# EAGLE library part MAX10M25SC_TEST1_ALTERA_MAX10M25SCPAD (library goJAMMAv02)
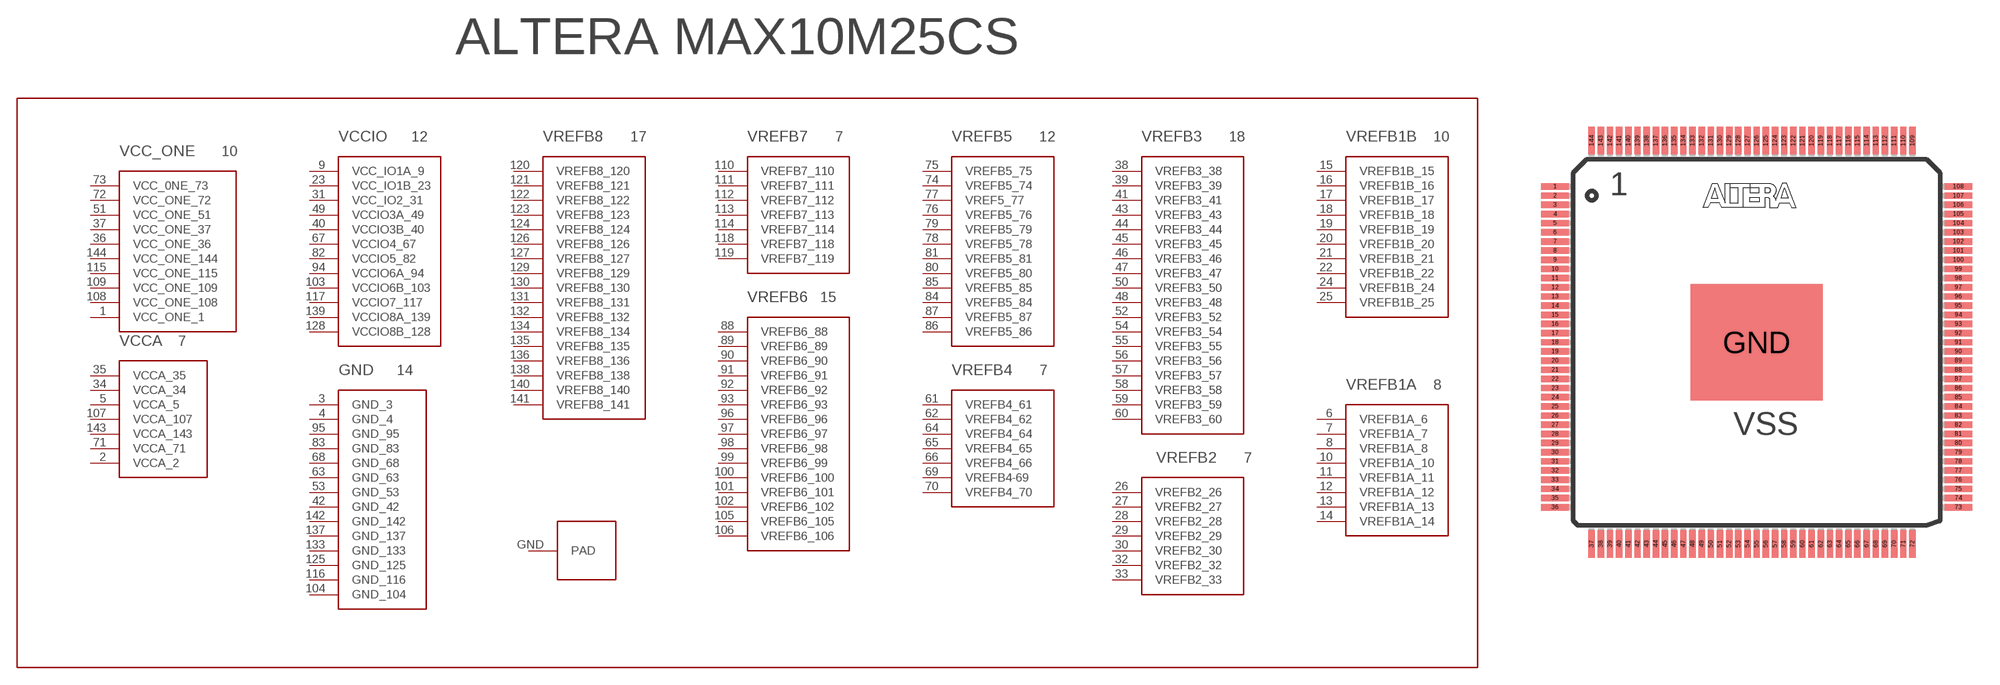
[diagram p3: symbol with the pads of MAX10M25SC_TEST1_ALTERA_EQFP144; footprint MAX10M25SC_TEST1_ALTERA_EQFP144]

Designator prefix -

## MAX10M25SC_TEST1_ALTERA_MAX10M25SCPAD  [MAX10M25SC_TEST1_ALTERA_EQFP144]
1  VCC_ONE_1
2  VCCA_2
3  GND_3
4  GND_4
5  VCCA_5
6  VREFB1A_6
7  VREFB1A_7
8  VREFB1A_8
9  VCC_IO1A_9
10  VREFB1A_10
11  VREFB1A_11
12  VREFB1A_12
13  VREFB1A_13
14  VREFB1A_14
15  VREFB1B_15
16  VREFB1B_16
17  VREFB1B_17
18  VREFB1B_18
19  VREFB1B_19
20  VREFB1B_20
21  VREFB1B_21
22  VREFB1B_22
23  VCC_IO1B_23
24  VREFB1B_24
25  VREFB1B_25
26  VREFB2_26
27  VREFB2_27
28  VREFB2_28
29  VREFB2_29
30  VREFB2_30
31  VCC_IO2_31
32  VREFB2_32
33  VREFB2_33
34  VCCA_34
35  VCCA_35
36  VCC_ONE_36
37  VCC_ONE_37
38  VREFB3_38
39  VREFB3_39
40  VCCIO3B_40
41  VREFB3_41
42  GND_42
43  VREFB3_43
44  VREFB3_44
45  VREFB3_45
46  VREFB3_46
47  VREFB3_47
48  VREFB3_48
49  VCCIO3A_49
50  VREFB3_50
51  VCC_ONE_51
52  VREFB3_52
53  GND_53
54  VREFB3_54
55  VREFB3_55
56  VREFB3_56
57  VREFB3_57
58  VREFB3_58
59  VREFB3_59
60  VREFB3_60
61  VREFB4_61
62  VREFB4_62
63  GND_63
64  VREFB4_64
65  VREFB4_65
66  VREFB4_66
67  VCCIO4_67
68  GND_68
69  VREFB4-69
70  VREFB4_70
71  VCCA_71
72  VCC_ONE_72
73  VCC_0NE_73
74  VREFB5_74
75  VREFB5_75
76  VREFB5_76
77  VREF5_77
78  VREFB5_78
79  VREFB5_79
80  VREFB5_80
81  VREFB5_81
82  VCCIO5_82
83  GND_83
84  VREFB5_84
85  VREFB5_85
86  VREFB5_86
87  VREFB5_87
88  VREFB6_88
89  VREFB6_89
90  VREFB6_90
91  VREFB6_91
92  VREFB6_92
93  VREFB6_93
94  VCCIO6A_94
95  GND_95
96  VREFB6_96
97  VREFB6_97
98  VREFB6_98
99  VREFB6_99
100  VREFB6_100
101  VREFB6_101
102  VREFB6_102
103  VCCIO6B_103
104  GND_104
105  VREFB6_105
106  VREFB6_106
107  VCCA_107
108  VCC_ONE_108
109  VCC_ONE_109
110  VREFB7_110
111  VREFB7_111
112  VREFB7_112
113  VREFB7_113
114  VREFB7_114
115  VCC_ONE_115
116  GND_116
117  VCCIO7_117
118  VREFB7_118
119  VREFB7_119
120  VREFB8_120
121  VREFB8_121
122  VREFB8_122
123  VREFB8_123
124  VREFB8_124
125  GND_125
126  VREFB8_126
127  VREFB8_127
128  VCCIO8B_128
129  VREFB8_129
130  VREFB8_130
131  VREFB8_131
132  VREFB8_132
133  GND_133
134  VREFB8_134
135  VREFB8_135
136  VREFB8_136
137  GND_137
138  VREFB8_138
139  VCCIO8A_139
140  VREFB8_140
141  VREFB8_141
142  GND_142
143  VCCA_143
144  VCC_ONE_144
GND  PAD

## Footprint MAX10M25SC_TEST1_ALTERA_EQFP144 (pad centres in mm)
smd 1.5 x 0.35: 1 -11,8.5; 2 -11,8; 3 -11,7.5; 4 -11,7; 5 -11,6.5; 6 -11,6; 7 -11,5.5; 8 -11,5; 9 -11,4.5; 10 -11,4; 11 -11,3.5; 12 -11,3; 13 -11,2.5; 14 -11,2; 15 -11,1.5; 16 -11,1; 17 -11,0.5; 18 -11,0; 19 -11,-0.5; 20 -11,-1; 21 -11,-1.5; 22 -11,-2; 23 -11,-2.5; 24 -11,-3; 25 -11,-3.5; 26 -11,-4; 27 -11,-4.5; 28 -11,-5; 29 -11,-5.5; 30 -11,-6; 31 -11,-6.5; 32 -11,-7; 33 -11,-7.5; 34 -11,-8; 35 -11,-8.5; 36 -11,-9; 73 11,-9; 74 11,-8.5; 75 11,-8; 76 11,-7.5; 77 11,-7; 78 11,-6.5; 79 11,-6; 80 11,-5.5; 81 11,-5; 82 11,-4.5; 83 11,-4; 84 11,-3.5; 85 11,-3; 86 11,-2.5; 87 11,-2; 88 11,-1.5; 89 11,-1; 90 11,-0.5; 91 11,0; 92 11,0.5; 93 11,1; 94 11,1.5; 95 11,2; 96 11,2.5; 97 11,3; 98 11,3.5; 99 11,4; 100 11,4.5; 101 11,5; 102 11,5.5; 103 11,6; 104 11,6.5; 105 11,7; 106 11,7.5; 107 11,8; 108 11,8.5
smd 0.35 x 1.5: 37 -9,-11; 38 -8.5,-11; 39 -8,-11; 40 -7.5,-11; 41 -7,-11; 42 -6.5,-11; 43 -6,-11; 44 -5.5,-11; 45 -5,-11; 46 -4.5,-11; 47 -4,-11; 48 -3.5,-11; 49 -3,-11; 50 -2.5,-11; 51 -2,-11; 52 -1.5,-11; 53 -1,-11; 54 -0.5,-11; 55 0,-11; 56 0.5,-11; 57 1,-11; 58 1.5,-11; 59 2,-11; 60 2.5,-11; 61 3,-11; 62 3.5,-11; 63 4,-11; 64 4.5,-11; 65 5,-11; 66 5.5,-11; 67 6,-11; 68 6.5,-11; 69 7,-11; 70 7.5,-11; 71 8,-11; 72 8.5,-11; 109 8.5,11; 110 8,11; 111 7.5,11; 112 7,11; 113 6.5,11; 114 6,11; 115 5.5,11; 116 5,11; 117 4.5,11; 118 4,11; 119 3.5,11; 120 3,11; 121 2.5,11; 122 2,11; 123 1.5,11; 124 1,11; 125 0.5,11; 126 0,11; 127 -0.5,11; 128 -1,11; 129 -1.5,11; 130 -2,11; 131 -2.5,11; 132 -3,11; 133 -3.5,11; 134 -4,11; 135 -4.5,11; 136 -5,11; 137 -5.5,11; 138 -6,11; 139 -6.5,11; 140 -7,11; 141 -7.5,11; 142 -8,11; 143 -8.5,11; 144 -9,11
smd 7.2 x 6.35: GND 0,0